# EAGLE library part TJA1040 (library mbed-ics)
CAN Transceiver
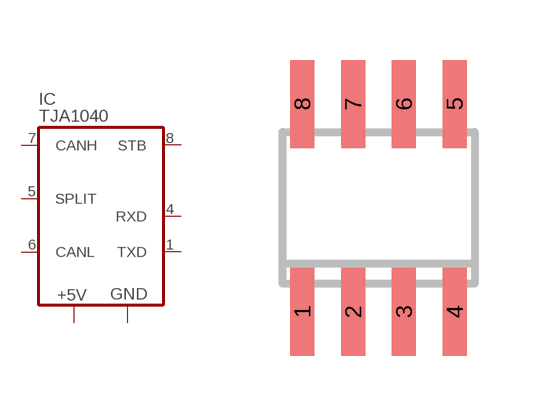
[diagram p3: symbol with the pads of SO08; footprint SO08]

Designator prefix IC

## TJA1040  [SO08]
1  TXD  in
2  GND  pwr
3  +5V  pwr
4  RXD  out
5  SPLIT  out
6  CANL
7  CANH
8  STB  in

## Footprint SO08 (pad centres in mm)
Small Outline Package 8 NS Package M08A
smd 0.6 x 2.2: 1 -1.905,-2.6; 2 -0.635,-2.6; 3 0.635,-2.6; 4 1.905,-2.6; 5 1.905,2.6; 6 0.635,2.6; 7 -0.635,2.6; 8 -1.905,2.6